# Altium footprint library Connectors.PcbLib: 69 footprints (part 4 of 5)
Each footprint in its own frame and in the unit in brackets; x right, y up, seen from the top. Pads: shape width x height; smd on the part's side, far side on the other; paste and mask are expansions set on the pad; w line width, h text height; cw(c..) or ccw(c..) is an arc to the next point about the centre after c.
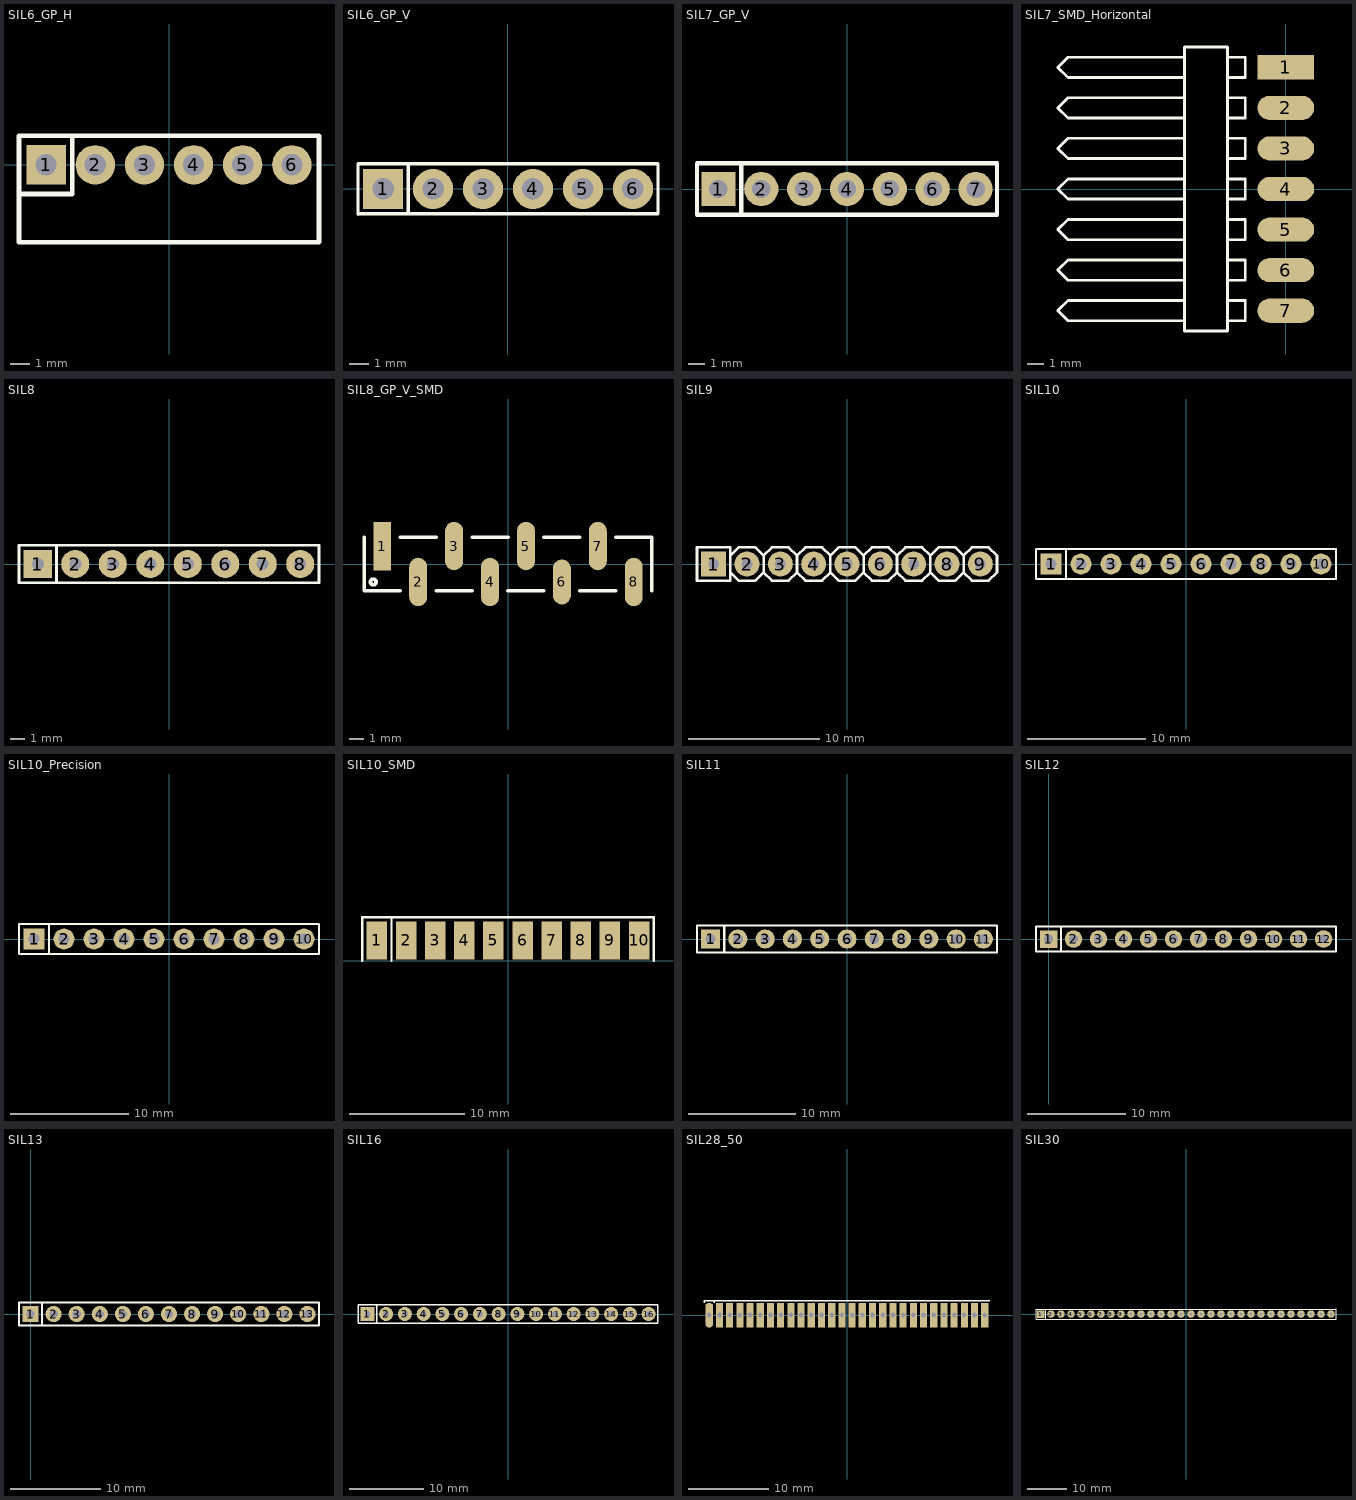
[diagram p3: the footprints below, top view; thin cyan lines are the x and y axes]

## SIL6_GP_H [mil] "Obudowa szeregowa SIP 6pin"
height 150
pads (6):
  rect 80x80 hole 43: 1(-250,0)
  round 80 hole 43: 2(-150,0) 3(-50,0) 4(50,0) 5(150,0) 6(250,0)
Top Overlay:
  lines w10: -305.12,-59.06 -196.85,-59.06 -196.85,59.06 ; -305.12,-157.48 -305.12,-49.21 -305.12,59.06 305.12,59.06 305.12,-49.21 305.12,-157.48 -305.12,-157.48
3D body "6pin_angle.STEP": height 103.51, standoff -139.94, extent -300.1,-378.78 300.1,15

## SIL6_GP_V [mil] "Goldpin 6PIN pionowe"
height 350
pads (6):
  rect 80x80 hole 43: 1(-250,0)
  round 80 hole 43: 2(-150,0) 3(-50,0) 4(50,0) 5(150,0) 6(250,0)
Top Overlay:
  lines w7: -200,-46.85 -200,50 ; -300.09,-50.09 -300,-50 -196.85,-50 300.1,-50 300.1,50 -300.09,50 -300.09,-50.09
3D body "6pin_straight.STEP": height 308.74, standoff -118.11, extent -300.09,-50.09 300.1,52.52

## SIL7_GP_V [mil] "Goldpin pionowy 7 pin"
height 350
pads (7):
  rect 80x80 hole 43: 1(-300,0)
  round 80 hole 43: 2(-200,0) 3(-100,0) 4(0,0) 5(100,0) 6(200,0) 7(300,0)
Top Overlay:
  lines w10: -246.85,-59.06 -246.85,59.06 ; 350,-60 -246.85,-60 -350,-60 -350,60 350,60 350,-59.06
3D body "7pin_straight.STEP": height 323.74, standoff -103.11, extent -350.09,-52.09 350.1,50.99

## SIL7_SMD_Horizontal [mil] "TSM10702LSH"
height 100
pads (7):
  rect 140x60 smd: 1(0,300)
  oval 140x60 smd: 2(0,200) 3(0,100) 4(0,0) 5(0,-100) 6(0,-200) 7(0,-300)
Top Overlay:
  lines w7: -250,-325 -537.5,-325 -562.5,-300 -537.5,-275 -250,-275 ; -250,-225 -537.5,-225 -562.5,-200 -537.5,-175 -250,-175 ; -250,-125 -537.5,-125 -562.5,-100 -537.5,-75 -250,-75 ; -250,-25 -537.5,-25 -562.5,0 -537.5,25 -250,25 ; -250,75 -537.5,75 -562.5,100 -537.5,125 -250,125 ; -250,175 -537.5,175 -562.5,200 -537.5,225 -250,225 ; -250,275 -537.5,275 -562.5,300 -537.5,325 -250,325 ; -143.75,-325 -100,-325 -100,-275 -143.75,-275 ; -143.75,-225 -100,-225 -100,-175 -143.75,-175 ; -143.75,-125 -100,-125 -100,-75 -143.75,-75 ; -143.75,-25 -100,-25 -100,25 -143.75,25 ; -143.75,75 -100,75 -100,125 -143.75,125 ; -143.75,175 -100,175 -100,225 -143.75,225 ; -143.75,275 -100,275 -100,325 -143.75,325 ; -250,-350 -250,350 -143.75,350 -143.75,-350 -250,-350
3D body "7_Pin_SMD_Horiz.STEP": height 118.11, standoff 0, extent -564.96,-350 52.76,350

## SIL8 [mil] "Obudowa szeregowa SIP 8pin"
pads (8):
  rect 75x75 hole 32: 1(-350,0)
  round 75 hole 32: 2(-250,0) 3(-150,0) 4(-50,0) 5(50,0) 6(150,0) 7(250,0) 8(350,0)
Top Overlay:
  lines w7: -300,-50 -300,50 ; -400,-50 400,-50 400,50 -400,50 -400,-50

## SIL8_GP_V_SMD [mil] "Connector Goldpin, 8pin/1line, Vertical"
height 400
pads (8):
  rect 50x135 smd: 1(-350,50)
  oval 50x135 smd: 2(-250,-50) 3(-150,50) 4(-50,-50) 5(50,50) 7(250,50) 8(350,-50)
  oval 50x125 smd: 6(150,-50)
Top Overlay:
  circle w10: c-375,-50 r8
  lines w10: -400,75 -400,-75 -300,-75 ; -300,75 -200,75 ; -200,-75 -100,-75 ; -100,75 0,75 ; 0,-75 100,-75 ; 100,75 200,75 ; 200,-75 300,-75 ; 300,75 400,75 400,-75

## SIL9 [mil] "Connector  9pin"
height 300
pads (9):
  rect 75x75 hole 32: 1(-400,0)
  round 75 hole 32: 2(-300,0) 3(-200,0) 4(-100,0) 5(0,0) 6(100,0) 7(200,0) 8(300,0) 9(400,0)
Top Overlay:
  lines w8: -350,-25 -350,-50 -450,-50 -450,50 -350,50 -350,25 ; -350,-25 -350,25 ; -350,-25 -325,-50 -275,-50 -250,-25 ; -350,25 -325,50 -275,50 -250,25 ; -250,-25 -250,25 ; -250,-25 -225,-50 -175,-50 -150,-25 ; -250,25 -225,50 -175,50 -150,25 ; -150,-25 -150,25 ; -150,-25 -125,-50 -75,-50 -50,-25 ; -150,25 -125,50 -75,50 -50,25 ; -50,-25 -50,25 ; -50,-25 -25,-50 25,-50 50,-25 ; -50,25 -25,50 25,50 50,25 ; 50,-25 50,25 ; 50,-25 75,-50 125,-50 150,-25 ; 50,25 75,50 125,50 150,25 ; 150,-25 150,25 ; 150,-25 175,-50 225,-50 250,-25 ; 150,25 175,50 225,50 250,25 ; 250,-25 250,25 ; 250,-25 275,-50 325,-50 350,-25 ; 250,25 275,50 325,50 350,25 ; 350,-25 350,25 ; 350,-25 375,-50 425,-50 450,-25 450,25 425,50 375,50 350,25
3D body "9pin_straight.STEP": height 323.74, standoff -103.11, extent -450.09,-53.96 450.1,50.1

## SIL10 [mil] "Obudowa szeregowa 10p"
pads (10):
  rect 70x70 hole 36: 1(-450,0)
  round 70 hole 36: 2(-350,0) 3(-250,0) 4(-150,0) 5(-50,0) 6(50,0) 7(150,0) 8(250,0) 9(350,0) 10(450,0)
Top Overlay:
  lines w8: -400,-50 -400,50 ; -500,-50 -500,50 500,50 500,-50 -500,-50
3D body "10pin_straight.STEP": height 325.74, standoff -101.11, extent -500,-52 500.19,52.53

## SIL10_Precision [mil] "Podstawka precyzyjna 10 pin"
height 7874.02
pads (10):
  rect 70x70 hole 36: 1(-450,0)
  round 70 hole 36: 2(-350,0) 3(-250,0) 4(-150,0) 5(-50,0) 6(50,0) 7(150,0) 8(250,0) 9(350,0) 10(450,0)
Top Overlay:
  lines w8: -400,-50 -400,50 ; -500,-50 -500,50 500,50 500,-50 -500,-50
3D body "precision_10_pin.STEP": height 167.36, standoff -122.64, extent -500,-50 500,50

## SIL10_SMD [mil] "Obudowa szeregowa 10pin SMD"
pads (10):
  rect 70x130 smd: 1(-450,70) 2(-350,70) 3(-250,70) 4(-150,70) 5(-50,70) 6(50,70) 7(150,70) 8(250,70) 9(350,70) 10(450,70)
Top Overlay:
  lines w8: -500,0 -500,150 500,150 500,0 ; -400,0 -400,150

## SIL11 [mil] "Obudowa szeregowa 11pin"
pads (11):
  rect 70x70 hole 36: 1(-500,0)
  round 70 hole 36: 2(-400,0) 3(-300,0) 4(-200,0) 5(-100,0) 6(0,0) 7(100,0) 8(200,0) 9(300,0) 10(400,0) 11(500,0)
Top Overlay:
  lines w8: -450,-50 -450,50 ; -550,-50 -550,50 550,50 550,-50 -550,-50
3D body "1pin_straight.STEP": height 308.74, standoff -118.11, extent 449.91,-50.09 550.11,50.1
3D body "10pin_straight.STEP": height 308.74, standoff -118.11, extent -550.09,-50.09 450.1,54.44

## SIL12 [mil] "Obudowa szeregowa 12pin"
pads (12):
  rect 70x70 hole 36: 1(0,0)
  round 70 hole 36: 2(100,0) 3(200,0) 4(300,0) 5(400,0) 6(500,0) 7(600,0) 8(700,0) 9(800,0) 10(900,0) 11(1000,0) 12(1100,0)
Top Overlay:
  lines w8: 50,-50 50,50 ; -50,-50 -50,50 1150,50 1150,-50 -50,-50
3D body "12pin_straight.STEP": height 323.74, standoff -103.11, extent -50,-52 1150.19,53.5

## SIL13 [mil] "Obudowa szeregowa 13pin"
pads (13):
  rect 70x70 hole 36: 1(0,0)
  round 70 hole 36: 2(100,0) 3(200,0) 4(300,0) 5(400,0) 6(500,0) 7(600,0) 8(700,0) 9(800,0) 10(900,0) 11(1000,0) 12(1100,0) 13(1200,0)
Top Overlay:
  lines w8: 50,-50 50,50 ; -50,-50 -50,50 1250,50 1250,-50 -50,-50

## SIL16 [mil] "Obudowa szeregowa SIP 16pin"
pads (16):
  rect 75x75 hole 32: 1(-750,0)
  round 75 hole 32: 2(-650,0) 3(-550,0) 4(-450,0) 5(-350,0) 6(-250,0) 7(-150,0) 8(-50,0) 9(50,0) 10(150,0) 11(250,0) 12(350,0) 13(450,0) 14(550,0) 15(650,0) 16(750,0)
Top Overlay:
  lines w7: -700,-50 -700,50 ; -800,-50 800,-50 800,50 -800,50 -800,-50
3D body "1pin_straight.STEP": height 308.74, standoff -118.11, extent 699.91,-50.09 800.11,50.11
3D body "1pin_straight.STEP": height 308.74, standoff -118.11, extent 599.91,-50.09 700.11,50.11
3D body "1pin_straight.STEP": height 308.74, standoff -118.11, extent 499.91,-50.09 600.11,50.11
3D body "1pin_straight.STEP": height 308.74, standoff -118.11, extent 399.91,-50.09 500.11,50.11
3D body "1pin_straight.STEP": height 308.74, standoff -118.11, extent 299.91,-50.09 400.11,50.11
3D body "1pin_straight.STEP": height 308.74, standoff -118.11, extent 199.91,-50.09 300.11,50.11
3D body "1pin_straight.STEP": height 308.74, standoff -118.11, extent 99.91,-50.09 200.11,50.11
3D body "1pin_straight.STEP": height 308.74, standoff -118.11, extent -0.09,-50.09 100.11,50.11
3D body "1pin_straight.STEP": height 308.74, standoff -118.11, extent -100.09,-50.09 0.11,50.11
3D body "1pin_straight.STEP": height 308.74, standoff -118.11, extent -200.09,-50.09 -99.89,50.11
3D body "1pin_straight.STEP": height 308.74, standoff -118.11, extent -300.09,-50.09 -199.89,50.11
3D body "1pin_straight.STEP": height 308.74, standoff -118.11, extent -400.09,-50.09 -299.89,50.11
3D body "1pin_straight.STEP": height 308.74, standoff -118.11, extent -500.09,-50.09 -399.89,50.11
3D body "1pin_straight.STEP": height 308.74, standoff -118.11, extent -600.09,-50.09 -499.89,50.11
3D body "1pin_straight.STEP": height 308.74, standoff -118.11, extent -700.09,-50.09 -599.89,50.11
3D body "1pin_straight.STEP": height 308.74, standoff -118.11, extent -800.09,-50.09 -699.89,50.11

## SIL28_50 [mil] "SIL 28pin raster 50mils"
pads (28):
  oct 35x120 hole 23: 1(-675,0)
  rect 35x120 hole 23: 2(-625,0) 3(-575,0) 4(-525,0) 5(-475,0) 6(-425,0) 7(-375,0) 8(-325,0) 9(-275,0) 10(-225,0) 11(-175,0) 12(-125,0) 13(-75,0) 14(-25,0) 15(25,0) 16(75,0) 17(125,0) 18(175,0) 19(225,0) 20(275,0) 21(325,0) 22(375,0) 23(425,0) 24(475,0) 25(525,0) 26(575,0) 27(625,0) 28(675,0)
Top Overlay:
  lines w7: -700,60 -700,70 700,70 ; -650,60 -650,70

## SIL30 [mil] "Obudowa serial 30 pin"
height 150
pads (30):
  rect 75x75 hole 32: 1(-1450.11,-0.01)
  round 75 hole 32: 2(-1350.11,-0.01) 3(-1250.11,-0.01) 4(-1150.11,-0.01) 5(-1050.11,-0.01) 6(-950.11,-0.01) 7(-850.11,-0.01) 8(-750.11,-0.01) 9(-650.11,-0.01) 10(-550.11,-0.01) 11(-450.11,-0.01) 12(-350.11,-0.01) 13(-250.11,-0.01) 14(-150.11,-0.01) 15(-50.11,-0.01) 16(50,0) 17(150,0) 18(250,0) 19(350,0) 20(450,0) 21(550,0) 22(650,0) 23(750,0) 24(850,0) 25(950,0) 26(1050,0) 27(1150,0) 28(1250,0) 29(1350,0) 30(1450,0)
Top Overlay:
  lines w7: -1400.11,-50.01 -1400.11,49.99 ; 1500.11,49.99 -1500.11,49.99 -1500.11,-50.01 1500.11,-50.01 1500.11,50.11
3D body "1pin_straight.STEP": height 308.74, standoff -118.11, extent 300,-50.2 400.2,50
3D body "1pin_straight.STEP": height 308.74, standoff -118.11, extent -1500.2,-50.1 -1400,50.1
3D body "1pin_straight.STEP": height 308.74, standoff -118.11, extent -1400.2,-50.1 -1300,50.1
3D body "1pin_straight.STEP": height 308.74, standoff -118.11, extent -1300.2,-50.1 -1200,50.1
3D body "1pin_straight.STEP": height 308.74, standoff -118.11, extent -1200.2,-50.1 -1100,50.1
3D body "1pin_straight.STEP": height 308.74, standoff -118.11, extent -1100.2,-50.1 -1000,50.1
3D body "1pin_straight.STEP": height 308.74, standoff -118.11, extent -1000.2,-50.1 -900,50.1
3D body "1pin_straight.STEP": height 308.74, standoff -118.11, extent -900.2,-50.1 -800,50.1
3D body "1pin_straight.STEP": height 308.74, standoff -118.11, extent -800.2,-50.1 -700,50.1
3D body "1pin_straight.STEP": height 308.74, standoff -118.11, extent -700.2,-50.1 -600,50.1
3D body "1pin_straight.STEP": height 308.74, standoff -118.11, extent -600.2,-50.1 -500,50.1
3D body "1pin_straight.STEP": height 308.74, standoff -118.11, extent -500.2,-50.1 -400,50.1
3D body "1pin_straight.STEP": height 308.74, standoff -118.11, extent -400.2,-50.1 -300,50.1
3D body "1pin_straight.STEP": height 308.74, standoff -118.11, extent -300.2,-50.1 -200,50.1
3D body "1pin_straight.STEP": height 308.74, standoff -118.11, extent -200.2,-50.1 -100,50.1
3D body "1pin_straight.STEP": height 308.74, standoff -118.11, extent -100.2,-50.1 0,50.1
3D body "1pin_straight.STEP": height 308.74, standoff -118.11, extent -0.09,-50.09 100.11,50.11
3D body "1pin_straight.STEP": height 308.74, standoff -118.11, extent 99.9,-50.2 200.1,50
3D body "1pin_straight.STEP": height 308.74, standoff -118.11, extent 200,-50.2 300.2,50
3D body "1pin_straight.STEP": height 308.74, standoff -118.11, extent 399.91,-50.09 500.11,50.11
3D body "1pin_straight.STEP": height 308.74, standoff -118.11, extent 499.91,-50.09 600.11,50.11
3D body "1pin_straight.STEP": height 308.74, standoff -118.11, extent 599.91,-50.09 700.11,50.11
3D body "1pin_straight.STEP": height 308.74, standoff -118.11, extent 699.91,-50.09 800.11,50.11
3D body "1pin_straight.STEP": height 308.74, standoff -118.11, extent 799.91,-50.09 900.11,50.11
3D body "1pin_straight.STEP": height 308.74, standoff -118.11, extent 899.91,-50.09 1000.11,50.11
3D body "1pin_straight.STEP": height 308.74, standoff -118.11, extent 999.91,-50.09 1100.11,50.11
3D body "1pin_straight.STEP": height 308.74, standoff -118.11, extent 1099.91,-50.09 1200.11,50.11
3D body "1pin_straight.STEP": height 308.74, standoff -118.11, extent 1199.91,-50.09 1300.11,50.11
3D body "1pin_straight.STEP": height 308.74, standoff -118.11, extent 1299.91,-50.09 1400.11,50.11
3D body "1pin_straight.STEP": height 308.74, standoff -118.11, extent 1399.91,-50.09 1500.11,50.11